# EAGLE library part ATTO84_THT (library Atto84)
Sparkfun SPX-14804 ATTO84 - DIP package Arduino compatible controller with micronucleus The Atto84 is essentially a breakout board for the absolutely minute WQFN ATtiny84, but we've done some work to make it easier to program. First off, we've added a micro-USB connector and a firmware-based USB driver for the ATtiny that allows you to program the chip over USB. In addition, we've created an Arduino board profile that combines this bootloader with an extremely full-featured ATtiny Arduino core. SparkFun Products: Atto84 with Arduino Bootloader - SPX-14804 - Sparkfun Electronics <https://www.sparkfun.com/products/14804> GitHub Repo <https://github.com/sparkfunX/Atto84>
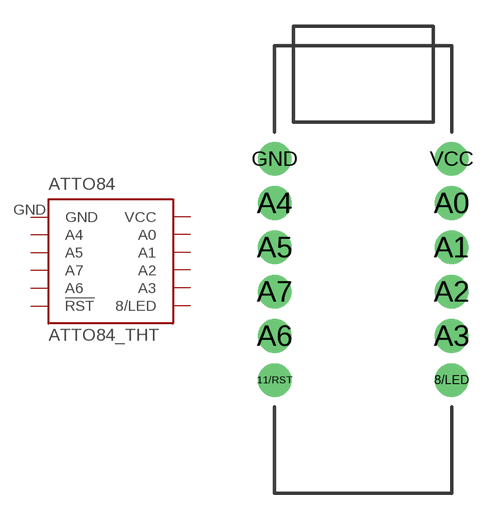
[diagram p1: symbol with the pads of ATTO84-THT; footprint ATTO84-THT]

Designator prefix -

## ATTO84_THT  [ATTO84-THT]
8/LED  8/LED
11/RST  !RST  in
A0  A0
A1  A1
A2  A2
A3  A3
A4  A4
A5  A5
A6  A6
A7  A7
GND  GND  pwr
VCC  VCC  pwr

## Footprint ATTO84-THT (pad centres in mm)
ATTO84 - DIP package Arduino compatible controller with micronucleus Specifications: Pin count: 12 Pin pitch: .1" Area: [11mm x 28mm]
drill 1 pad 1.93: 8/LED 5.08,-6.35; 11/RST -5.08,-6.35; A0 5.08,3.81; A1 5.08,1.27; A2 5.08,-1.27; A3 5.08,-3.81; A4 -5.08,3.81; A5 -5.08,1.27; A6 -5.08,-3.81; A7 -5.08,-1.27; GND -5.08,6.35; VCC 5.08,6.35